# EAGLE library part IRF9310PBF (library trafshlib)
MOSFET P-Channel 30V 20A SOIC8 Infineon IRF9310PBF P-channel MOSFET Transistor, 20 A, 30 V, 8-Pin SOIC Source: Datasheet <http://www.farnell.com/datasheets/2040382.pdf>
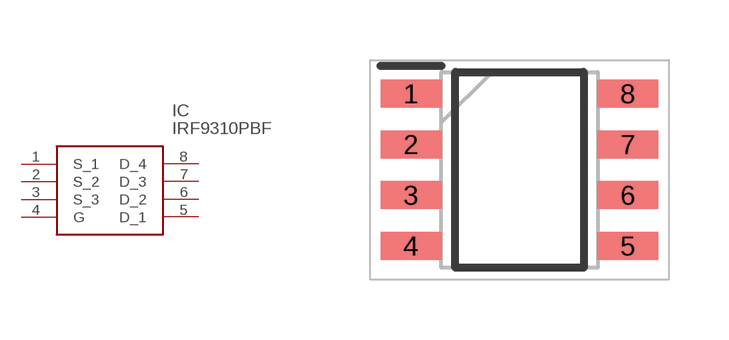
[diagram p16: symbol with the pads of SOIC127P600X175-8N; footprint SOIC127P600X175-8N]

Designator prefix IC

## IRF9310PBF (ALLIED_NUMBER: 70019233; ALLIED_PRICE-STOCK: https://www.alliedelec.com/infineon-irf9310pbf/70019233/; DESCRIPTION: MOSFET P-Channel 30V 20A SOIC8 Infineon IRF9310PBF P-channel MOSFET Transistor, 20 A, 30 V, 8-Pin SOIC; HEIGHT: 1.75mm; MANUFACTURER_NAME: Infineon; MANUFACTURER_PART_NUMBER: IRF9310PBF; MOUSER_PART_NUMBER: 942-IRF9310PBF; MOUSER_PRICE-STOCK: https://www.mouser.com/Search/Refine.aspx?Keyword=942-IRF9310PBF; RS_PART_NUMBER: 7259234P; RS_PRICE-STOCK: http://uk.rs-online.com/web/p/products/7259234P)  [SOIC127P600X175-8N]
1  S_1
2  S_2
3  S_3
4  G
5  D_1
6  D_2
7  D_3
8  D_4

## Footprint SOIC127P600X175-8N (pad centres in mm)
SO-8
smd 1.525 x 0.7: 1 -2.712,1.905; 2 -2.712,0.635; 3 -2.712,-0.635; 4 -2.712,-1.905; 5 2.712,-1.905; 6 2.712,-0.635; 7 2.712,0.635; 8 2.712,1.905